# EAGLE library part SSW-110-02-S-S (library A4988)
THROUGH-HOLE .025" SQ POST SOCKET Source: Samtec SSW.pdf
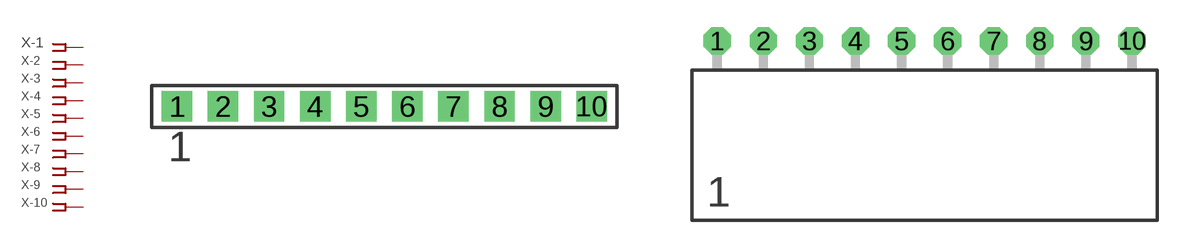
[diagram p3: symbol with the pads of SSW-110-02-S-S; footprints SSW-110-02-S-S, SSW-110-02-S-S-RA]

Designator prefix X; gates -1=FPINV -2=FPIN -3=FPIN -4=FPIN -5=FPIN -6=FPIN -7=FPIN -8=FPIN -9=FPIN -10=FPIN

## SSW-110-02-S-S (MPN: SSW-110-02-S-S; OC_FARNELL: unknown; OC_NEWARK: 11P9482)  [SSW-110-02-S-S]
1  -1:1  pas
2  -2:1  pas
3  -3:1  pas
4  -4:1  pas
5  -5:1  pas
6  -6:1  pas
7  -7:1  pas
8  -8:1  pas
9  -9:1  pas
10  -10:1  pas

## SSW-110-02-S-S-RA (MPN: SSW-110-02-S-S-RA; OC_FARNELL: unknown; OC_NEWARK: 11P9483)  [SSW-110-02-S-S-RA]
Pads as for SSW-110-02-S-S

## Footprint SSW-110-02-S-S (pad centres in mm)
THROUGH-HOLE .025" SQ POST SOCKET Source: Samtec SSW.pdf
drill 1 pad 1.676 square: 1 -11.43,0; 2 -8.89,0; 3 -6.35,0; 4 -3.81,0; 5 -1.27,0; 6 1.27,0; 7 3.81,0; 8 6.35,0; 9 8.89,0; 10 11.43,0

## Footprint SSW-110-02-S-S-RA (pad centres in mm)
THROUGH-HOLE .025" SQ POST SOCKET Source: Samtec SSW.pdf
drill 1 pad 1.5 octagon: 1 -11.43,1.524; 2 -8.89,1.524; 3 -6.35,1.524; 4 -3.81,1.524; 5 -1.27,1.524; 6 1.27,1.524; 7 3.81,1.524; 8 6.35,1.524; 9 8.89,1.524; 10 11.43,1.524